# Altium footprint library CustomFootprints.PcbLib: 67 footprints (part 3 of 5)
Each footprint in its own frame and in the unit in brackets; x right, y up, seen from the top. Pads: shape width x height; smd on the part's side, far side on the other; paste and mask are expansions set on the pad; w line width, h text height; cw(c..) or ccw(c..) is an arc to the next point about the centre after c.
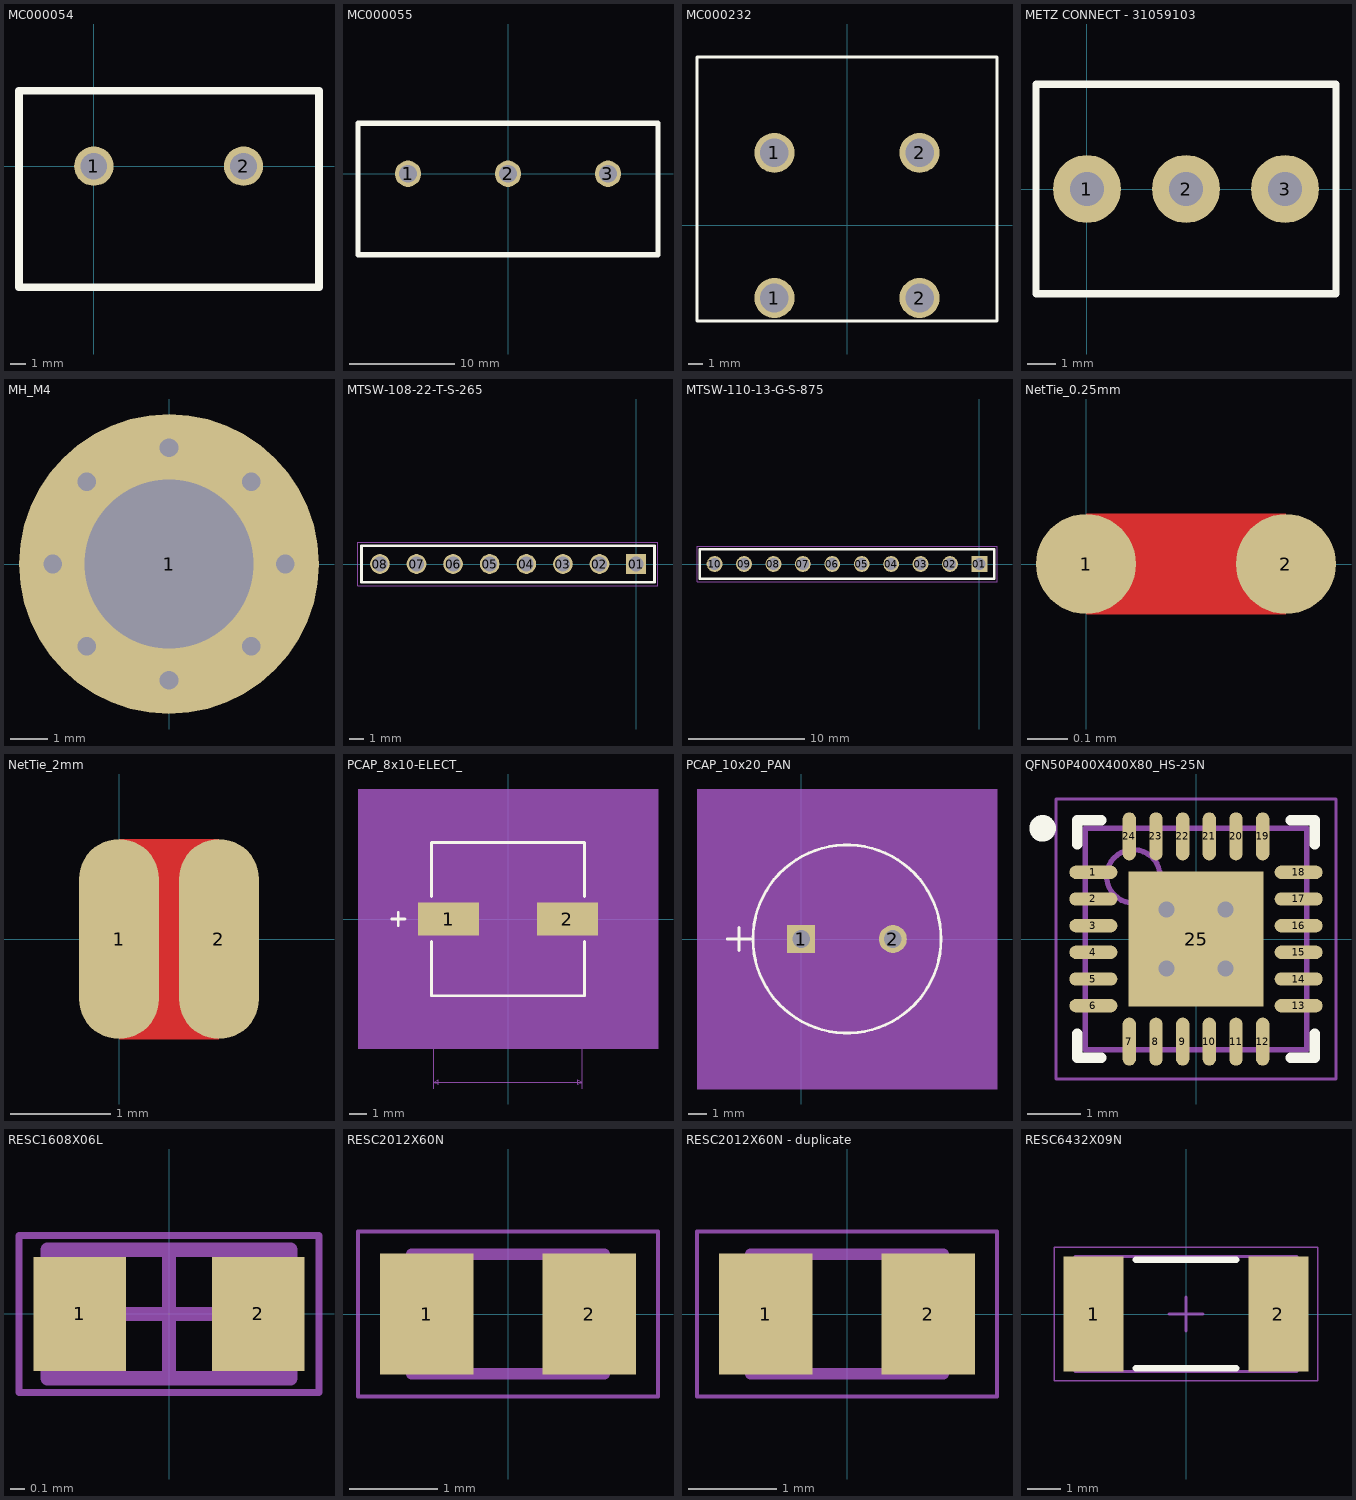
[diagram p2: the footprints below, top view; thin cyan lines are the x and y axes]

## MC000054 [mm] "MULTICOMP  Wire-To-Board Terminal Block, 2, 600 V, 30 A, 24 AWG, 10 AWG"
height 22
pads (2):
  round 2.5 hole 1.7: 1(0,0) 2(9.52,0)
Top Overlay:
  lines w0.5: -4.76,-7.7 -4.76,4.8 14.32,4.8 14.32,-7.7 -4.76,-7.7

## MC000055 [mm] "Multicomp Wire-To-Board Terminal Block, 3, 600 V, 30 A, 24 AWG, 10 AWG"
height 22
pads (3):
  round 2.5 hole 1.7: 1(-9.52,0) 2(0,0) 3(9.52,0)
Top Overlay:
  lines w0.5: -14.28,-7.7 14.28,-7.7 14.28,4.8 -14.28,4.8 -14.28,-7.7

## MC000232 [mm] "TERMINAL BLOCK, WIRE TO BRD, 2POS, 6AWG"
height 28
pads (4):
  round 2.8 hole 2: 1(-5.08,-5.08) 1(-5.08,5.08) 2(5.08,-5.08) 2(5.08,5.08)
Top Overlay:
  lines w0.2: -10.5,-6.7 -10.5,11.8 10.5,11.8 10.5,-6.7 5,-6.7 -5,-6.7 -10.5,-6.7

## METZ CONNECT - 31059103 [mm] "TERMINAL BLOCK, PCB, 3POS, 28-16AWG"
height 8.2
pads (3):
  round 2.4 hole 1.2: 1(0,0) 2(3.5,0) 3(7,0)
Top Overlay:
  lines w0.254: -1.8,-3.7 8.8,-3.7 8.8,0 8.8,3.7 -1.8,3.7 -1.8,0 -1.8,-3.7

## MH_M4 [mm] "Plated and viad M4 mounting hole"
pads (1):
  round 8 hole 4.5: 1(0,0)
via 2.192,-2.192 diameter 1.27 hole 0.5
via 0,-3.1 diameter 1.27 hole 0.5
via -2.192,-2.192 diameter 1.27 hole 0.5
via -3.1,0 diameter 1.27 hole 0.5
via -2.192,2.192 diameter 1.27 hole 0.5
via 0,3.1 diameter 1.27 hole 0.5
via 2.192,2.192 diameter 1.27 hole 0.5
via 3.1,0 diameter 1.27 hole 0.5

## MTSW-108-22-T-S-265 [mm]
pads (8):
  rect 1.37x1.37 hole 1.02: 01(0,0)
  round 1.37 hole 1.02: 02(-2.54,0) 03(-5.08,0) 04(-7.62,0) 05(-10.16,0) 06(-12.7,0) 07(-15.24,0) 08(-17.78,0)
Top Overlay:
  lines w0.2: -19.05,-1.27 -19.05,1.27 1.27,1.27 1.27,-1.27 -19.05,-1.27
Mechanical 4:
  lines w0.1: -19.05,-1.27 -19.05,1.27 ; -19.05,-1.27 1.27,-1.27 ; -19.05,-1.27 -19.05,1.27 ; -19.05,-1.27 1.27,-1.27 ; -19.05,1.27 1.27,1.27 ; -19.05,1.27 1.27,1.27 ; 1.27,-1.27 1.27,1.27 ; 1.27,-1.27 1.27,1.27
Mechanical 16:
  lines w0.05: -19.3,-1.52 -19.3,1.52 1.52,1.52 1.52,-1.52 -19.3,-1.52

## MTSW-110-13-G-S-875 [mm]
pads (10):
  rect 1.37x1.37 hole 1.02: 01(0,0)
  round 1.37 hole 1.02: 02(-2.54,0) 03(-5.08,0) 04(-7.62,0) 05(-10.16,0) 06(-12.7,0) 07(-15.24,0) 08(-17.78,0) 09(-20.32,0) 10(-22.86,0)
Top Overlay:
  lines w0.2: -24.13,-1.27 -24.13,1.27 1.27,1.27 1.27,-1.27 -24.13,-1.27
Mechanical 4:
  lines w0.1: -24.13,-1.27 -24.13,1.27 ; -24.13,-1.27 1.27,-1.27 ; -24.13,-1.27 -24.13,1.27 ; -24.13,-1.27 1.27,-1.27 ; -24.13,1.27 1.27,1.27 ; -24.13,1.27 1.27,1.27 ; 1.27,-1.27 1.27,1.27 ; 1.27,-1.27 1.27,1.27
Mechanical 16:
  lines w0.05: -24.38,-1.52 -24.38,1.52 1.52,1.52 1.52,-1.52 -24.38,-1.52

## NetTie_0.25mm [mm] "Net tie, 0.25mm"
pads (2):
  round 0.25 smd paste-2: 1(0,0) 2(0.5,0)
Top Layer:
  region: 0,0.125 0.5,0.125 0.5,-0.125 0,-0.125

## NetTie_2mm [mm] "Net tie, 2mm round"
pads (2):
  oval 0.8x2 smd paste-2: 1(0,0) 2(1,0)
Top Layer:
  region: 0,1 1,1 1,-1 0,-1

## PCAP_8x10-ELECT_ [mil]
pads (2):
  rect 138x75 smd paste+0 mask+0: 1(-134,0) 2(134,0)
Top Overlay:
  lines w6: -262,0 -232,0 ; -247,-15 -247,15 ; -172.5,-50.6 -172.5,-172.5 172.5,-172.5 172.5,-50.6 ; -172.5,50.6 -172.5,172.5 172.5,172.5 172.5,50.6
Mechanical 5:
  region: 338,-292.5 -338,-292.5 -338,292.5 338,292.5
Mechanical 7:
  lines w1: -282.5,-167.5 -167.5,-167.5 -167.5,-382.5 ; -282.5,167.5 -167.5,167.5 ; -233,-267.5 -183,-267.5 ; -183,-282.5 -183,-47.5 ; -183,47.5 -183,282.5 ; -61,-282.5 -61,-27.5 ; -11,-267.5 -61,-267.5 ; 167.5,-382.5 167.5,-167.5 ; 183,47.5 183,282.5 ; 213,-21.5 318,-21.5 ; 213,21.5 318,21.5 ; 303,-71.5 303,-21.5 ; 303,71.5 303,21.5 ; -267.5,-167.5 -262.5,-157.5 -272.5,-157.5 -267.5,-167.5 ; -267.5,-167.5 -267.5,167.5 ; -267.5,167.5 -262.5,157.5 -272.5,157.5 -267.5,167.5 ; -183,-267.5 -193,-272.5 -193,-262.5 -183,-267.5 ; -183,267.5 -173,262.5 -173,272.5 -183,267.5 ; -183,267.5 183,267.5 ; -167.5,-367.5 -157.5,-372.5 -157.5,-362.5 -167.5,-367.5 ; -167.5,-367.5 167.5,-367.5 ; -61,-267.5 -51,-272.5 -51,-262.5 -61,-267.5 ; 167.5,-367.5 157.5,-372.5 157.5,-362.5 167.5,-367.5 ; 183,267.5 173,262.5 173,272.5 183,267.5 ; 303,-21.5 308,-31.5 298,-31.5 303,-21.5 ; 303,21.5 308,31.5 298,31.5 303,21.5
  text "0.335in/8.509mm" at -93.75,-412.5 h25
  text "0.122in/3.099mm" at -215.75,-312.5 h25
  text "0.335in/8.509mm" at -475,-12.5 h25
  text "0.366in/9.296mm" at -93.75,287.5 h25
  text "0.043in/1.092mm" at 323,-12.5 h25
  text "Alternate 2 Padstyle: OX90Y60D30P" at -412.5,-637.5 h50
  text "Alternate 1 Padstyle: OX60Y90D30P" at -412.5,-537.5 h50
  text "Default Padstyle: RX138Y75D0T" at -362.5,-437.5 h50
Mechanical 13:
  lines w1: -262,0 -232,0 ; -247,-15 -247,15 ; -167.5,-83.75 -83.75,-167.5 ; -167.5,83.75 -83.75,167.5 ; -167.5,-167.5 -167.5,167.5 167.5,167.5 167.5,-167.5 -167.5,-167.5
Mechanical 15:
  region: -177.5,-47.5 -213,-47.5 -213,47.5 -177.5,47.5 -177.5,177.5 177.5,177.5 177.5,47.5 213,47.5 213,-47.5 177.5,-47.5 177.5,-177.5 -177.5,-177.5
  lines w6: -213,-47.5 -177.5,-47.5 -177.5,-177.5 177.5,-177.5 177.5,-47.5 213,-47.5 213,47.5 177.5,47.5 177.5,177.5 -177.5,177.5 -177.5,47.5 -213,47.5 -213,-47.5
3D body: height 10, standoff 0, extent 0,0 10,10

## PCAP_10x20_PAN [mil]
pads (2):
  rect 60x60 hole 38 mask+0: 1(0,0)
  round 60 hole 38 mask+0: 2(197,0)
Top Overlay:
  circle w6: c98.5,0 r202
  lines w6: -158.5,0 -108.5,0 ; -133.5,-25 -133.5,25
Mechanical 5:
  region: 420.5,-322 -223.5,-322 -223.5,322 420.5,322
Mechanical 7:
  lines w1: -98.5,0 -98.5,262 ; 0,-262 0,0 ; 98.5,-197 360.5,-197 ; 98.5,197 360.5,197 ; 197,-262 197,0 ; 295.5,0 295.5,262 ; -98.5,247 295.5,247 ; -98.5,247 -88.5,252 -88.5,242 -98.5,247 ; 0,-247 197,-247 ; 0,-247 10,-242 10,-252 0,-247 ; 197,-247 187,-242 187,-252 197,-247 ; 295.5,247 285.5,252 285.5,242 295.5,247 ; 345.5,-197 345.5,197 ; 345.5,-197 340.5,-187 350.5,-187 345.5,-197 ; 345.5,197 340.5,187 350.5,187 345.5,197
  text "Pin 1 Pad Style: SX60Y60D38P" at -251.5,-397 h50
  text "Default Pad Style: EX60Y60D38P" at -276.5,-472 h50
  text "Alt 1 Pad Style: OX60Y90D30P" at -251.5,-547 h50
  text "Alt 2 Pad Style: OX90Y60D30P" at -251.5,-622 h50
  text "0.197in/5.004mm" at 4.75,-292 h25
  text "0.394in/10.008mm" at -1.5,267 h25
  text "0.394in/10.008mm" at 365.5,-12.5 h25
Mechanical 13:
  circle w0: c98.5,0 r197
  lines w1: -158.5,0 -108.5,0 ; -133.5,-25 -133.5,25
Mechanical 15:
  region: -108.5,85.24 13.26,207 183.74,207 305.5,85.24 305.5,-85.24 183.74,-207 13.26,-207 -108.5,-85.24
  lines w1: -108.5,-85.24 13.26,-207 183.74,-207 305.5,-85.24 305.5,85.24 183.74,207 13.26,207 -108.5,85.24 -108.5,-85.24
3D body: height 10, standoff 0, extent 0,0 10,10

## QFN50P400X400X80_HS-25N [mm] "QFN, 24-Leads, Body 4.00x4.00mm, Pitch 0.50mm, Thermal Pad 2.54x2.54mm, IPC Medium Density"
height 0.8
pads (25):
  oval 0.9x0.25 smd: 1(-1.925,1.25) 2(-1.925,0.75) 3(-1.925,0.25) 4(-1.925,-0.25) 5(-1.925,-0.75) 6(-1.925,-1.25) 13(1.925,-1.25) 14(1.925,-0.75) 15(1.925,-0.25) 16(1.925,0.25) 17(1.925,0.75) 18(1.925,1.25)
  oval 0.25x0.9 smd: 7(-1.25,-1.925) 8(-0.75,-1.925) 9(-0.25,-1.925) 10(0.25,-1.925) 11(0.75,-1.925) 12(1.25,-1.925) 19(1.25,1.925) 20(0.75,1.925) 21(0.25,1.925) 22(-0.25,1.925) 23(-0.75,1.925) 24(-1.25,1.925)
  rect 2.54x2.54 smd: 25(0,0)
via 0.55,0.55 diameter 0.7 hole 0.3
via -0.55,0.55 diameter 0.7 hole 0.3
via -0.55,-0.55 diameter 0.7 hole 0.3
via 0.55,-0.55 diameter 0.7 hole 0.3
Top Overlay:
  circle w0.25: c-2.875,2.075 r0.125
  lines w0.2: -2.225,-1.775 -2.225,-2.225 -1.775,-2.225 ; -2.225,1.775 -2.225,2.225 -1.775,2.225 ; 1.775,-2.225 2.225,-2.225 2.225,-1.775 ; 1.775,2.225 2.225,2.225 2.225,1.775
Mechanical 13:
  circle w0.1: c-1.175,1.175 r0.5
  lines w0.1: -2.075,-2.075 2.075,-2.075 2.075,2.075 -2.075,2.075 -2.075,-2.075
Mechanical 15:
  lines w0.05: -2.625,-2.625 2.625,-2.625 2.625,2.625 -2.625,2.625 -2.625,-2.625
  lines w0.1: -0.5,0 0.5,0 ; 0,-0.5 0,0.5
3D body: height 0.8, standoff 0.01, extent -2.075,-2.075 2.075,2.075

## RESC1608X06L [mm] "Chip Resistor, 2-Leads, Body 1.60x0.80mm, IPC High Density"
height 0.6
pads (2):
  rect 0.65x0.8 smd: 1(-0.625,0) 2(0.625,0)
Mechanical 13:
  lines w0.1: -0.85,-0.45 0.85,-0.45 0.85,0.45 -0.85,0.45 -0.85,-0.45
Mechanical 15:
  lines w0.05: -1.05,-0.55 1.05,-0.55 1.05,0.55 -1.05,0.55 -1.05,-0.55
  lines w0.1: -0.45,0 0.45,0 ; 0,-0.45 0,0.45
3D body: height 0.6, standoff 0, extent 0.55,-0.45 0.85,0.45
3D body: height 0.6, standoff 0, extent -0.85,-0.45 -0.55,0.45
3D body: height 0.6, standoff 0, extent -0.55,-0.45 0.55,0.45

## RESC2012X60N [mm]
pads (2):
  rect 1.06x1.38 smd: 1(-0.925,0) 2(0.925,0)
Mechanical 4:
  lines w0.127: -1.1,-0.68 1.1,-0.68 ; -1.1,-0.68 -1.1,0.68 ; -1.1,-0.68 1.1,-0.68 ; -1.1,-0.68 -1.1,0.68 ; -1.1,0.68 1.1,0.68 ; -1.1,0.68 1.1,0.68 ; 1.1,-0.68 1.1,0.68 ; 1.1,-0.68 1.1,0.68
Mechanical 16:
  lines w0.05: -1.708,-0.94 1.708,-0.94 1.708,0.94 -1.708,0.94 -1.708,-0.94

## RESC2012X60N - duplicate [mm]
pads (2):
  rect 1.06x1.38 smd: 1(-0.925,0) 2(0.925,0)
Mechanical 13:
  lines w0.127: -1.1,-0.68 1.1,-0.68 1.1,0.68 -1.1,0.68 -1.1,-0.68
Mechanical 15:
  lines w0.05: -1.708,-0.94 1.708,-0.94 1.708,0.94 -1.708,0.94 -1.708,-0.94

## RESC6432X09N [mm] "Chip Resistor, 2-Leads, Body 6.40x3.20mm, IPC Medium Density"
height 0.9
pads (2):
  rect 1.8x3.45 smd: 1(-2.775,0) 2(2.775,0)
Top Overlay:
  lines w0.2: -1.5,-1.625 1.5,-1.625 ; -1.5,1.625 1.5,1.625
Mechanical 13:
  lines w0.1: -3.325,-1.725 -3.325,1.725 3.325,1.725 3.325,-1.725 -3.325,-1.725
Mechanical 15:
  lines w0.05: -3.95,-2 -3.95,2 3.95,2 3.95,-2 -3.95,-2
  lines w0.1: -0.5,0 0.5,0 ; 0,-0.5 0,0.5
3D body: height 0.9, standoff 0, extent -2.425,-1.725 2.425,1.725
3D body: height 0.9, standoff 0, extent -3.325,-1.725 -2.425,1.725
3D body: height 0.9, standoff 0, extent 2.425,-1.725 3.325,1.725